# Altium footprint library Main Board.PcbLib: 22 footprints (part 1 of 2)
Each footprint in its own frame and in the unit in brackets; x right, y up, seen from the top. Pads: shape width x height; smd on the part's side, far side on the other; paste and mask are expansions set on the pad; w line width, h text height; cw(c..) or ccw(c..) is an arc to the next point about the centre after c.
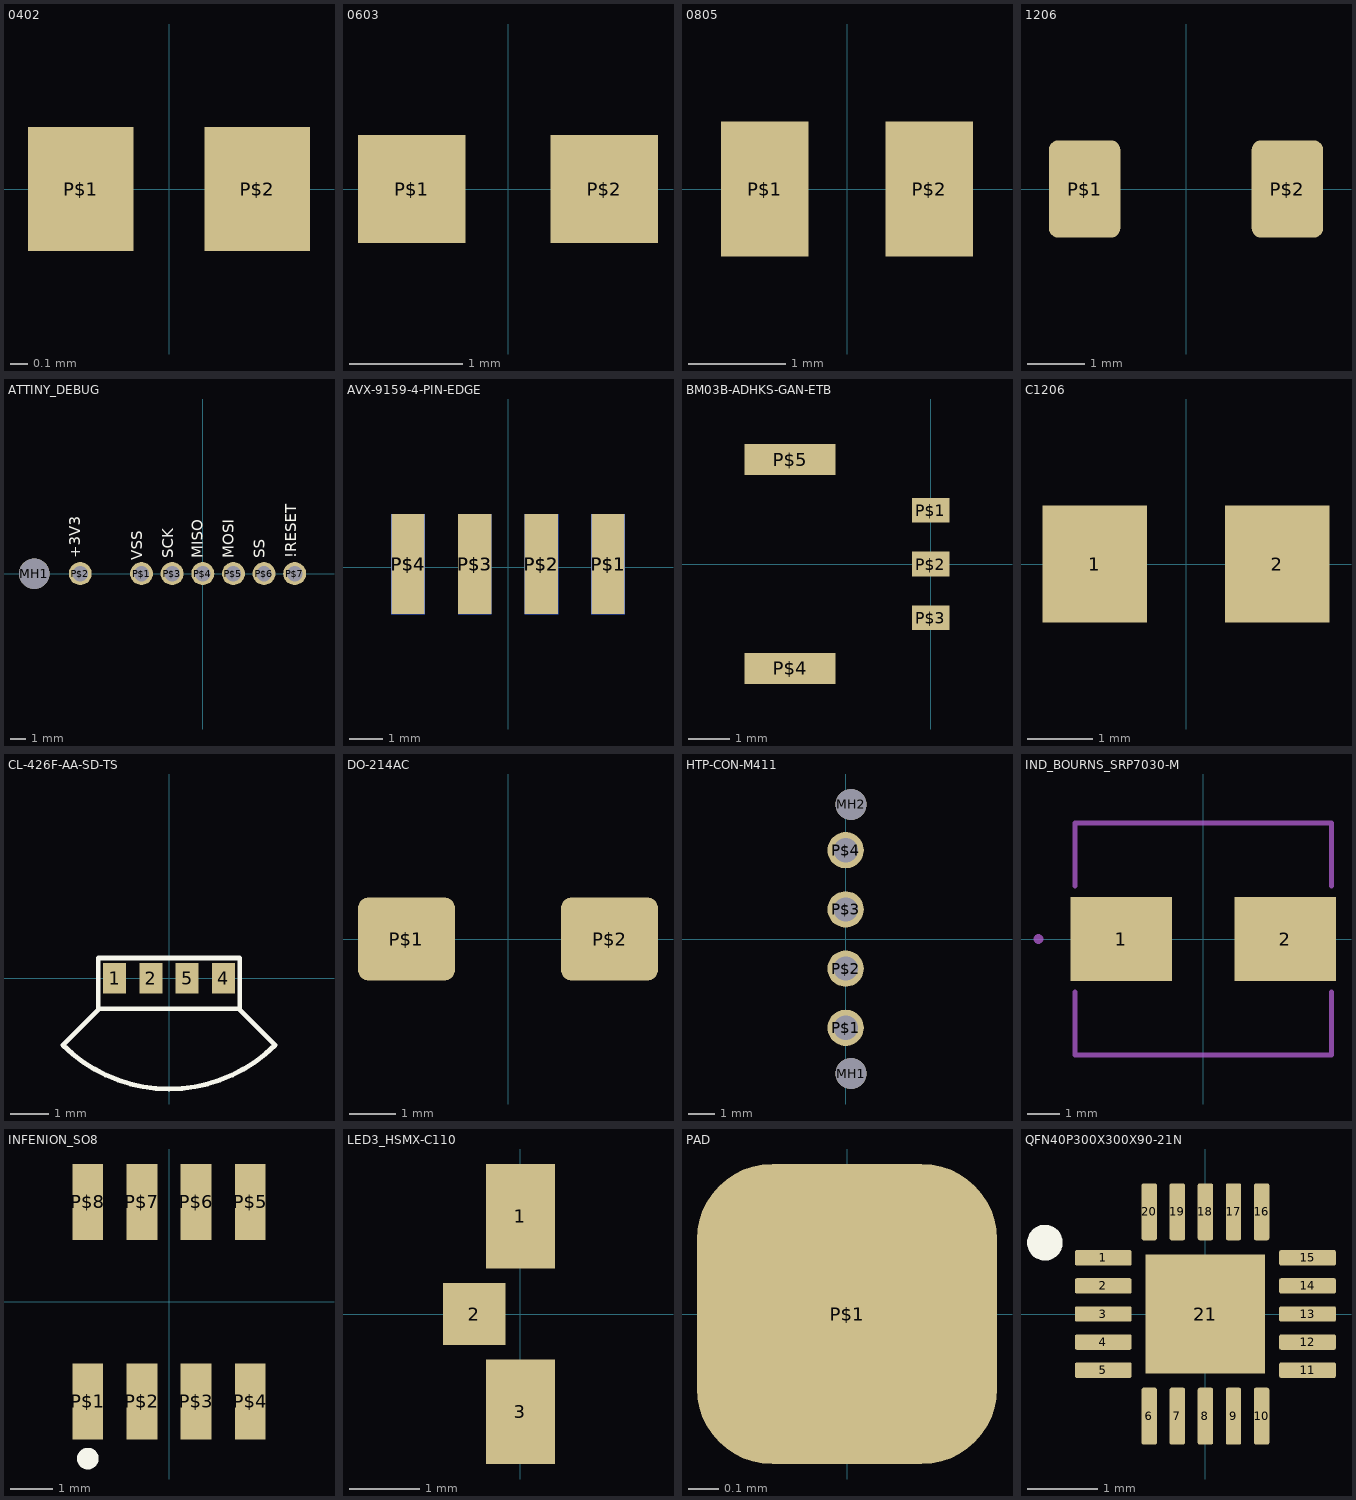
[diagram p0: the footprints below, top view; thin cyan lines are the x and y axes]

## 0402 [mm] "0402"
pads (2):
  rect 0.6x0.7 smd: P$1(-0.5,0) P$2(0.5,0)
3D body: height 0.35, standoff 0, extent 0.3,-0.275 0.55,0.275
3D body: height 0.35, standoff 0, extent -0.55,-0.275 -0.3,0.275
3D body: height 0.35, standoff 0, extent -0.3,-0.275 0.3,0.275

## 0603 [mm] "0603"
pads (2):
  rect 0.95x0.95 smd: P$1(-0.85,0) P$2(0.85,0)
3D body: height 0.55, standoff 0, extent -0.575,-0.475 0.575,0.475
3D body: height 0.55, standoff 0, extent -0.875,-0.475 -0.575,0.475
3D body: height 0.55, standoff 0, extent 0.575,-0.475 0.875,0.475

## 0805 [mm] "0805"
pads (2):
  rect 0.9x1.4 smd: P$1(-0.85,0) P$2(0.85,0)
3D body: height 1.25, standoff 0, extent -1.012,-0.637 1.013,0.638

## 1206 [mm] "1206"
pads (2):
  rrect25% 1.25x1.7 smd: P$1(-1.775,0) P$2(1.775,0)
3D body: height 1.8, standoff 0, extent -1.7,-0.9 1.7,0.9

## ATTINY_DEBUG [mm] "ATTINY_DEBUG"
pads (8):
  round 2 hole 2 unplated: MH1(-11,0)
  round 1.5 / inner round 1.524 / far side round 1.5 hole 1: P$1(-4,0) P$2(-8,0) P$3(-2,0) P$4(0,0) P$5(2,0) P$6(4,0) P$7(6,0)
Top Overlay:
  text "VSS" at -3.683,0.889 h1.24
  text "+3V3" at -7.747,1.016 h1.24
  text "SCK" at -1.651,1.016 h1.24
  text "MISO" at 0.254,1.016 h1.24
  text "MOSI" at 2.286,1.016 h1.24
  text "SS" at 4.318,1.016 h1.24
  text "!RESET" at 6.35,1.016 h1.24

## AVX-9159-4-PIN-EDGE [mm] "AVX-9159-4-PIN-EDGE"
pads (8):
  rect 1x3 smd: P$1(3,0.1) P$2(1,0.1) P$3(-1,0.1) P$4(-3,0.1)
  rect 1x3 smd far side: P$1(3,0.1) P$2(1,0.1) P$3(-1,0.1) P$4(-3,0.1)

## BM03B-ADHKS-GAN-ETB [mm] "BM03B-ADHKS-GAN-ETB"
pads (5):
  rect 0.9x0.6 smd: P$1(0,1.3) P$2(0,0) P$3(0,-1.3)
  rect 2.2x0.75 smd: P$4(-3.4,-2.525) P$5(-3.4,2.525)

## C1206 [mm] "C1206"
pads (2):
  rect 1.6x1.8 smd: 1(-1.4,0) 2(1.4,0)
3D body: height 1.8, standoff 0, extent -1.7,-0.9 1.7,0.9

## CL-426F-AA-SD-TS [mm]
pads (4):
  rect 0.6x0.8 smd mask+0.051: 1(-1.425,0) 2(-0.475,0) 4(1.425,0) 5(0.475,0)
Top Overlay:
  lines w0.127: -1.775,-0.8 1.775,-0.8 ; -2.775,-1.75 ccw(c0,1.025) 2.775,-1.75 1.85,-0.825 1.85,0.525 -1.85,0.525 -1.85,-0.825 -2.775,-1.75

## DO-214AC [mm] "DO-214AC"
pads (2):
  rrect25% 2.1x1.8 smd: P$1(-2.2,0) P$2(2.2,0)

## HTP-CON-M411 [mm] "HTP-CON-M411"
pads (6):
  round 1.15 hole 1.15 unplated: MH1(0.2,-5) MH2(0.2,5)
  round 1.35 / inner round 1.524 / far side round 1.35 hole 0.9: P$1(0,-3.3) P$2(0,-1.1) P$3(0,1.1) P$4(0,3.3)

## IND_BOURNS_SRP7030-M [mil] "IND_BOURNS_SRP7030-M"
pads (2):
  rect 125x103 smd: 1(-101,0) 2(101,0)
Mechanical 8:
  lines w6: -158,-65 -158,-143 158,-143 158,-65 ; -158,65 -158,143 158,143 158,65 ; -206,0 cw(c-203,0) -200,0 cw(c-203,0) -206,0
3D body "srp7030.stp": height 118.11, standoff -7.87, extent -153.54,-137.87 153.55,137.72

## INFENION_SO8 [mm] "INFENION_SO8"
pads (8):
  rect 0.72x1.78 smd: P$1(-1.905,-2.34) P$2(-0.635,-2.34) P$3(0.635,-2.34) P$4(1.905,-2.34) P$5(1.905,2.34) P$6(0.635,2.34) P$7(-0.635,2.34) P$8(-1.905,2.34)
Top Overlay:
  circle w0.254: c-1.905,-3.683 r0.127

## LED3_HSMX-C110 [mil] "LED3_HSMX-C110"
pads (3):
  rect 39x59 smd: 1(0,55) 3(0,-55)
  rect 35x35 smd: 2(-26,0)

## PAD [mm] "PAD"
pads (1):
  rrect50% 1x1 smd paste+0: P$1(0,0)

## QFN40P300X300X90-21N [mm] "QFN40P300X300X90-21N"
pads (21):
  rrect25% 0.81x0.22 smd: 1(-1.455,0.8) 2(-1.455,0.4) 3(-1.455,0) 4(-1.455,-0.4) 5(-1.455,-0.8) 11(1.455,-0.8) 12(1.455,-0.4) 13(1.455,0) 14(1.455,0.4) 15(1.455,0.8)
  rrect25% 0.22x0.81 smd: 6(-0.8,-1.455) 7(-0.4,-1.455) 8(0,-1.455) 9(0.4,-1.455) 10(0.8,-1.455) 16(0.8,1.455) 17(0.4,1.455) 18(0,1.455) 19(-0.4,1.455) 20(-0.8,1.455)
  rect 1.7x1.7 smd paste+0: 21(0,0)
Top Overlay:
  circle w0.254: c-2.286,1.016 r0.127
Top Paste:
  region: -0.685,0.085 -0.685,0.685 -0.085,0.685 -0.085,0.085
  region: 0.085,0.085 0.085,0.685 0.685,0.685 0.685,0.085
  region: -0.686,-0.686 -0.686,-0.085 -0.085,-0.085 -0.085,-0.686
  region: 0.085,-0.685 0.085,-0.085 0.685,-0.085 0.685,-0.685